# Altium schematic symbol library scheme.SchLib: 11 symbols
Pins are listed as number, name and electrical type; pins without a type are passive.

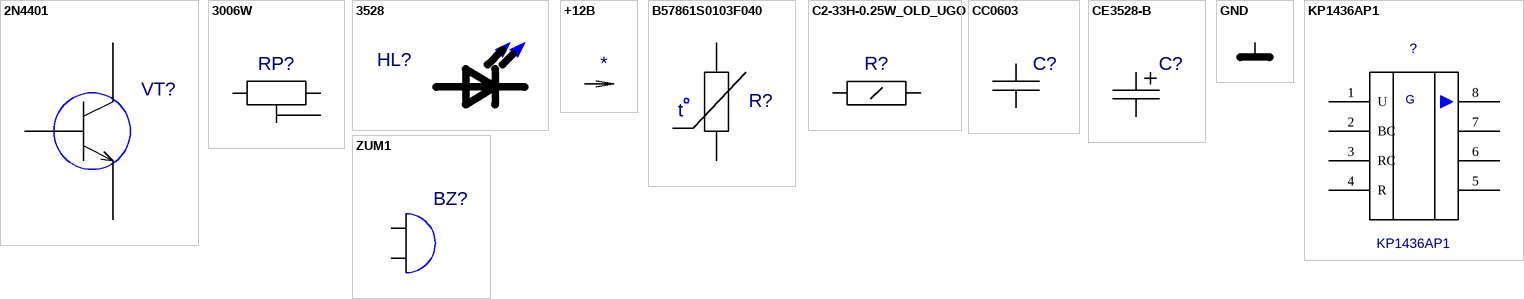
[diagram p0: symbols 2N4401 to ZUM1]

## 2N4401
designator VT?  (value not drawn)
Value: *
footprint TO-92-1
pins: 1 E, 2 B, 3 K

## 3006W
designator RP?  (value not drawn)
Value: *
footprint 3006P
pins: 1, 2, 3

## 3528
designator HL?  (value not drawn)
Value: *
footprint 3528
pins: A, K

## +12B
designator PWR?  (value not drawn)
Value: *
pins: 1 +12B (power)

## B57861S0103F040
designator R?  (value not drawn)
Value: *
footprint B57861
pins: 1, 2
text: t

## C2-33H-0.25W_OLD_UGO
designator R?  (value not drawn)
Value: *
footprint C2-33H-0.25W
pins: 1, 2

## CC0603
designator C?  (value not drawn)
Value: *
footprint CC0603
pins: 1 i/o1, 2 i/o

## CE3528-B
designator C?  (value not drawn)
Value: *
footprint CE3528-B
pins: 1 i/o, 2 i/o1

## GND
designator PWR?  (value not drawn)
Value: *
pins: 1 GND (power)

## KP1436AP1
designator ?
Value: *
footprint KP1436AP1
pins: 1 U, 2 BC, 3 RC, 4 R, 5, 6, 7, 8
text: G

## ZUM1
designator BZ?  (value not drawn)
Value: *
footprint ZUM1
pins: 1, 2